# EAGLE library part MIC2185 (library diode-20CJQ030)
MICREL's MIC2185 Low Voltage Synchronous Boost PWM Control IC General Description: Micrel?s MIC2185 is a high efficiency synchronous boost PWM control IC. With its wide input voltage range of 2.9V to 14V, the MIC2185 can be used to efficiently boost voltages in 1- or 2-cell Li Ion battery powered applications, as well as fixed 3.3V and 5V systems. Its powerful 5? output drivers allow the MIC2185 to supply large output currents with the selection of the proper external MOSFETs. With it's fixed frequency PWM architecture, and easily synchronized drive, the MIC2185 is ideal for noise-sensitive telecommunications applications. The nominal 400kHz operating frequency of the MIC2185 can be divided by two, allowing the device to be externally synchronized to frequencies below 400kHz. The MIC2185 also features a low current shutdown mode and a programmable undervoltage lockout. A skipped pulse mode of operation can be manually set to achieve higher efficiencies at light load conditions. The MIC2185 is available in a 16 pin SOIC package and 16 pin QSOP package with an ambient temperature operating range from -40°C to 85°C. Features: Input voltage range: 2.9V to 14V 95% efficiency Oscillator frequency of 200kHz/400kHz Frequency sync to 600kHz 0.5µA shutdown current Two 5Ohm output drivers Front edge blanking PWM current mode control Cycle-by-cycle current limiting Frequency foldback protection Adjustable under-voltage lockout Precision 1.245V reference output 16 pin SOIC narrow body package Applications: 3.3V to 5V conversion in telecom systems Satellite phones Cable modems 1-and 2-cell Li Ion battery operated equipment Please send any comments to: messi@users.sourceforge.net
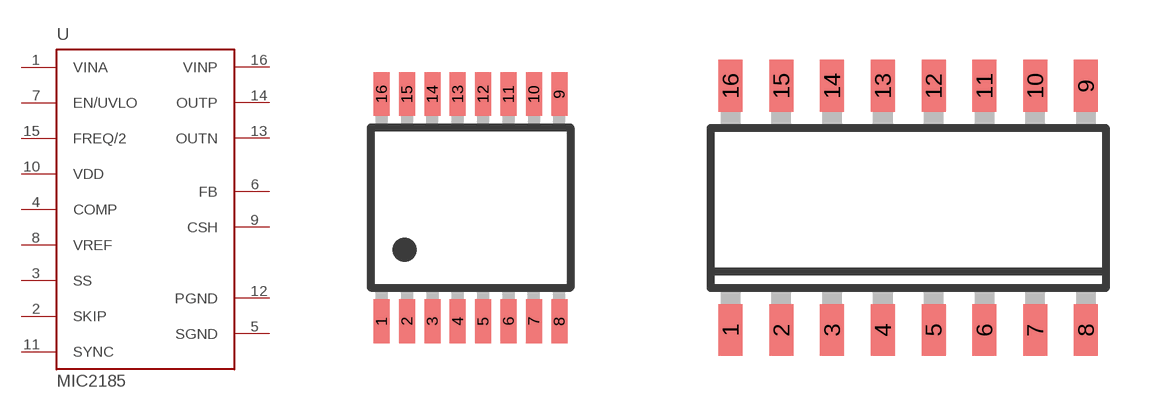
[diagram p60: symbol with the pads of QSOP16; footprints QSOP16, SOIC16N]

Designator prefix U

## MIC2185QSOP16  [QSOP16]
1  VINA  pwr
2  SKIP  in
3  SS  in
4  COMP  out
5  SGND  pwr
6  FB  in
7  EN/UVLO  in
8  VREF  out
9  CSH  in
10  VDD  in
11  SYNC  in
12  PGND  pwr
13  OUTN  out
14  OUTP  out
15  FREQ/2  in
16  VINP  in

## MIC2185QSOIC16  [SOIC16N]
Pads as for QSOP16

## Footprint QSOP16 (pad centres in mm)
QSOP-16 E.g. MIC2185
smd 0.4 x 1.1: 1 -2.223,-2.84; 2 -1.587,-2.84; 3 -0.953,-2.84; 4 -0.318,-2.84; 5 0.318,-2.84; 6 0.953,-2.84; 7 1.587,-2.84; 8 2.223,-2.84; 9 2.223,2.84; 10 1.587,2.84; 11 0.953,2.84; 12 0.318,2.84; 13 -0.318,2.84; 14 -0.953,2.84; 15 -1.587,2.84; 16 -2.223,2.84

## Footprint SOIC16N (pad centres in mm)
SMALL OUTLINE INTEGRATED CIRCUIT
smd 0.6 x 1.3: 1 -4.445,-3.05; 2 -3.175,-3.05; 3 -1.905,-3.05; 4 -0.635,-3.05; 5 0.635,-3.05; 6 1.905,-3.05; 7 3.175,-3.05; 8 4.445,-3.05; 9 4.445,3.05; 10 3.175,3.05; 11 1.905,3.05; 12 0.635,3.05; 13 -0.635,3.05; 14 -1.905,3.05; 15 -3.175,3.05; 16 -4.445,3.05